# Altium footprint library PcbLib1.PcbLib: 3 footprints
Each footprint in its own frame and in the unit in brackets; x right, y up, seen from the top. Pads: shape width x height; smd on the part's side, far side on the other; paste and mask are expansions set on the pad; w line width, h text height; cw(c..) or ccw(c..) is an arc to the next point about the centre after c.
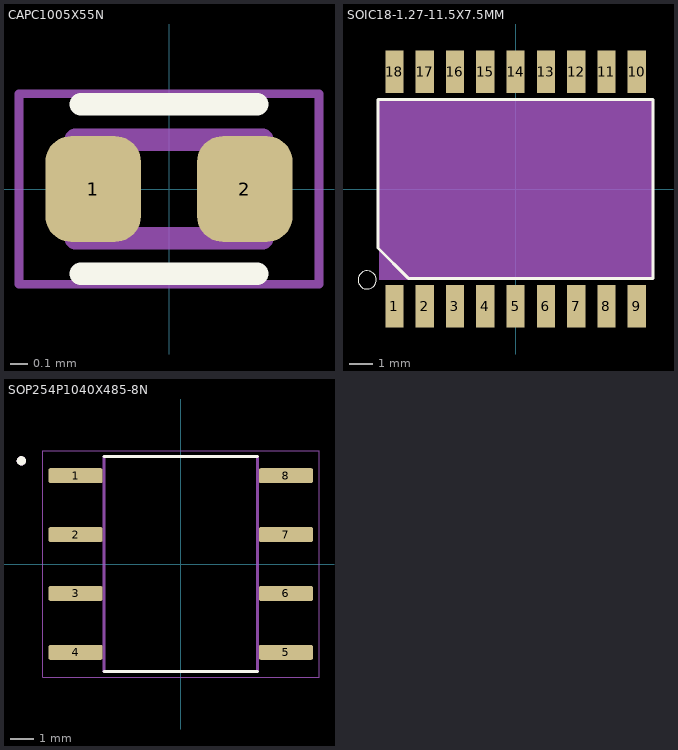
[diagram p0: the footprints below, top view; thin cyan lines are the x and y axes]

## CAPC1005X55N [mm]
pads (2):
  rrect53% 0.54x0.6 smd: 1(-0.43,0) 2(0.43,0)
Top Overlay:
  lines w0.127: -0.5,-0.48 0.5,-0.48 ; -0.5,0.48 0.5,0.48
Mechanical 13:
  lines w0.127: -0.53,-0.28 0.53,-0.28 0.53,0.28 -0.53,0.28 -0.53,-0.28
Mechanical 15:
  lines w0.05: -0.85,-0.54 0.85,-0.54 0.85,0.54 -0.85,0.54 -0.85,-0.54

## SOIC18-1.27-11.5X7.5MM [mil]
pads (18):
  rect 30x70 smd: 1(-200,-193.5) 2(-150,-193.5) 3(-100,-193.5) 4(-50,-193.5) 5(0,-193.5) 6(50,-193.5) 7(100,-193.5) 8(150,-193.5) 9(200,-193.5) 10(200,193.5) 11(150,193.5) 12(100,193.5) 13(50,193.5) 14(0,193.5) 15(-50,193.5) 16(-100,193.5) 17(-150,193.5) 18(-200,193.5)
Top Overlay:
  circle w0: c-245,-150 r15
  lines w5: -227,-97.5 -227,147.5 227,147.5 227,-147.5 -177,-147.5 -227,-97.5
Mechanical 15:
  region: 225,-150.03 -225.05,-150.03 -225.05,150 225,150

## SOP254P1040X485-8N [mm]
pads (8):
  rrect25% 2.34x0.64 smd: 1(-4.535,3.81) 2(-4.535,1.27) 3(-4.535,-1.27) 4(-4.535,-3.81) 5(4.535,-3.81) 6(4.535,-1.27) 7(4.535,1.27) 8(4.535,3.81)
Top Overlay:
  circle w0.2: c-6.875,4.45 r0.1
  lines w0.127: -3.31,-4.643 3.31,-4.643 ; -3.31,4.643 3.31,4.643
Mechanical 13:
  circle w0.2: c-6.875,4.45 r0.1
  lines w0.127: -3.31,-4.643 -3.31,4.643 3.31,4.643 3.31,-4.643 -3.31,-4.643
Mechanical 15:
  lines w0.05: -5.96,-4.892 -5.96,4.892 5.96,4.892 5.96,-4.892 -5.96,-4.892